# EAGLE library part FT220X (library ic-FTDI)
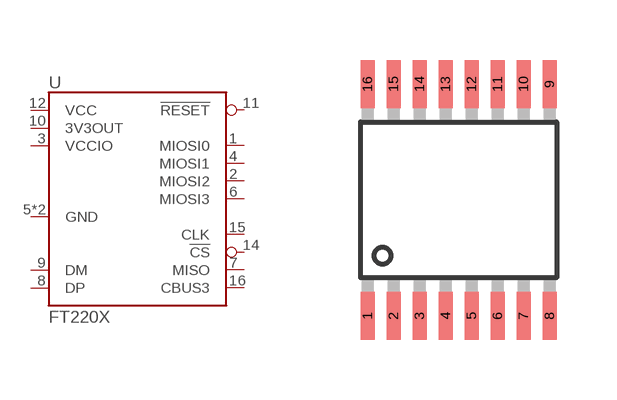
[diagram p5: symbol with the pads of SSOP16; footprint SSOP16]

Designator prefix U

## FT220XS  [SSOP16]
1  MIOSI0
2  MIOSI2
3  VCCIO
4  MIOSI1
5  GND
6  MIOSI3
7  MISO
8  DP
9  DM
10  3V3OUT
11  !RESET
12  VCC
13  GND
14  !CS
15  CLK
16  CBUS3

## Footprint SSOP16 (pad centres in mm)
smd 0.35 x 1.2: 1 -2.275,-2.9; 2 -1.625,-2.9; 3 -0.975,-2.9; 4 -0.325,-2.9; 5 0.325,-2.9; 6 0.975,-2.9; 7 1.625,-2.9; 8 2.275,-2.9; 9 2.275,2.9; 10 1.625,2.9; 11 0.975,2.9; 12 0.325,2.9; 13 -0.325,2.9; 14 -0.975,2.9; 15 -1.625,2.9; 16 -2.275,2.9